# EAGLE library part IRM-03-12 (library IRM-03-12)
Mean Well 3W Encapsulated Switch Mode Power Supply, 0 250mA, 12V dc Source: Datasheet <https://www.meanwell-web.com/content/files/pdfs/productPdfs/MW/IRM-03/IRM-03-spec.pdf>
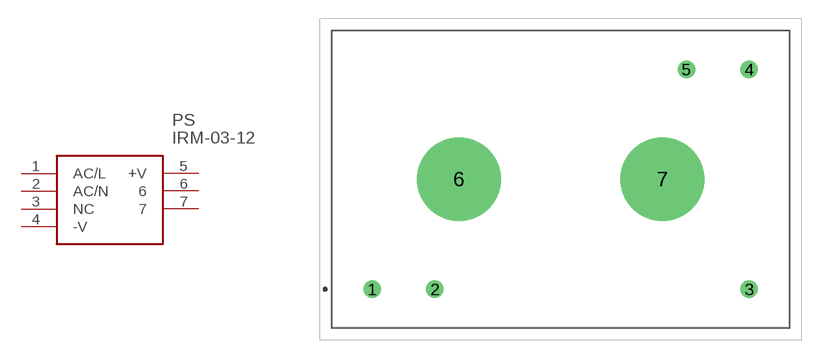
[diagram p0: symbol with the pads of IRM0312; footprint IRM0312]

Designator prefix PS

## IRM-03-12 (Arrow_Part_Number: IRM-03-12; Arrow_Price-Stock: https://www.arrow.com/en/products/irm-03-12/mean-well-enterprises; Description: Mean Well 3W Encapsulated Switch Mode Power Supply, 0 250mA, 12V dc; Height: 15mm; Manufacturer_Name: Mean Well; Manufacturer_Part_Number: IRM-03-12; Mouser_Part_Number: 709-IRM03-12; Mouser_Price-Stock: https://www.mouser.co.uk/ProductDetail/MEAN-WELL/IRM-03-12?qs=NKmfXavxMawjMKY4aLDNfg%3D%3D)  [IRM0312]
1  AC/L
2  AC/N
3  NC  nc
4  -V
5  +V
6  6
7  7

## Footprint IRM0312 (pad centres in mm)
IRM-03-12-2
drill 0.9 pad 1.4: 1 0,0; 2 5.08,0; 3 30.48,0; 4 30.48,17.78; 5 25.4,17.78
drill 4.5 pad 6.75: 6 7.02,8.9; 7 23.46,8.9